# EAGLE library part EG1313 (library oled)
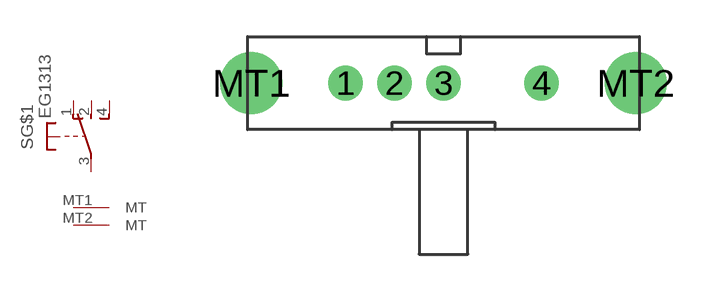
[diagram p1: symbol with the pads of EG1313; footprint EG1313]

Designator prefix S; gates G$1=TSU3 G$2=MT G$3=MT

## EG1313  [EG1313]
1  G$1:S1  pas
2  G$1:S2  pas
3  G$1:COM  pas
4  G$1:S3  pas
MT1  G$2:MT  pas
MT2  G$3:MT  pas

## Footprint EG1313 (pad centres in mm)
drill 0.7 pad 1.422 round: 1 -4,0; 2 -2,0; 3 0,0; 4 4,0
drill 1.4 pad 2.54 round: MT1 -7.85,0; MT2 7.85,0